# Altium footprint library SMD-Inductor.PcbLib: 1 footprints
Each footprint in its own frame and in the unit in brackets; x right, y up, seen from the top. Pads: shape width x height; smd on the part's side, far side on the other; paste and mask are expansions set on the pad; w line width, h text height; cw(c..) or ccw(c..) is an arc to the next point about the centre after c.
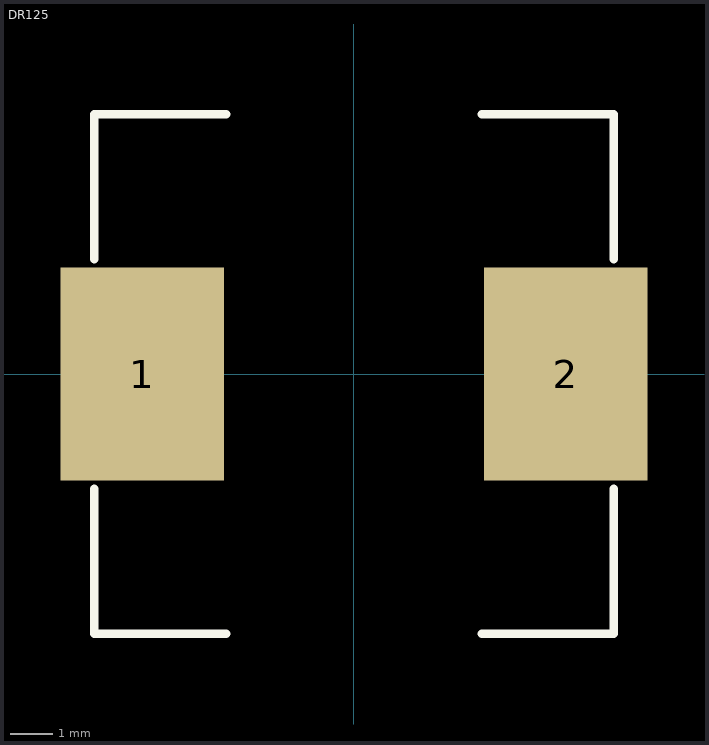
[diagram p0: the footprint, top view; thin cyan lines are the x and y axes]

## DR125 [mm] "DR125 Series"
pads (2):
  rect 3.85x5 smd: 1(-4.975,0) 2(4.975,0)
Top Overlay:
  lines w0.2: -6.1,-2.7 -6.1,-6.1 -3,-6.1 ; -6.1,2.7 -6.1,6.1 -3,6.1 ; 3,-6.1 6.1,-6.1 6.1,-2.7 ; 3,6.1 6.1,6.1 6.1,2.7
3D body "DR125 series.stp": height 5.92, standoff 0.02, extent -6,-6 6,6